# Altium footprint library Common-Parts-Library.PcbLib: 530 footprints (part 2 of 34)
Each footprint in its own frame and in the unit in brackets; x right, y up, seen from the top. Pads: shape width x height; smd on the part's side, far side on the other; paste and mask are expansions set on the pad; w line width, h text height; cw(c..) or ccw(c..) is an arc to the next point about the centre after c.
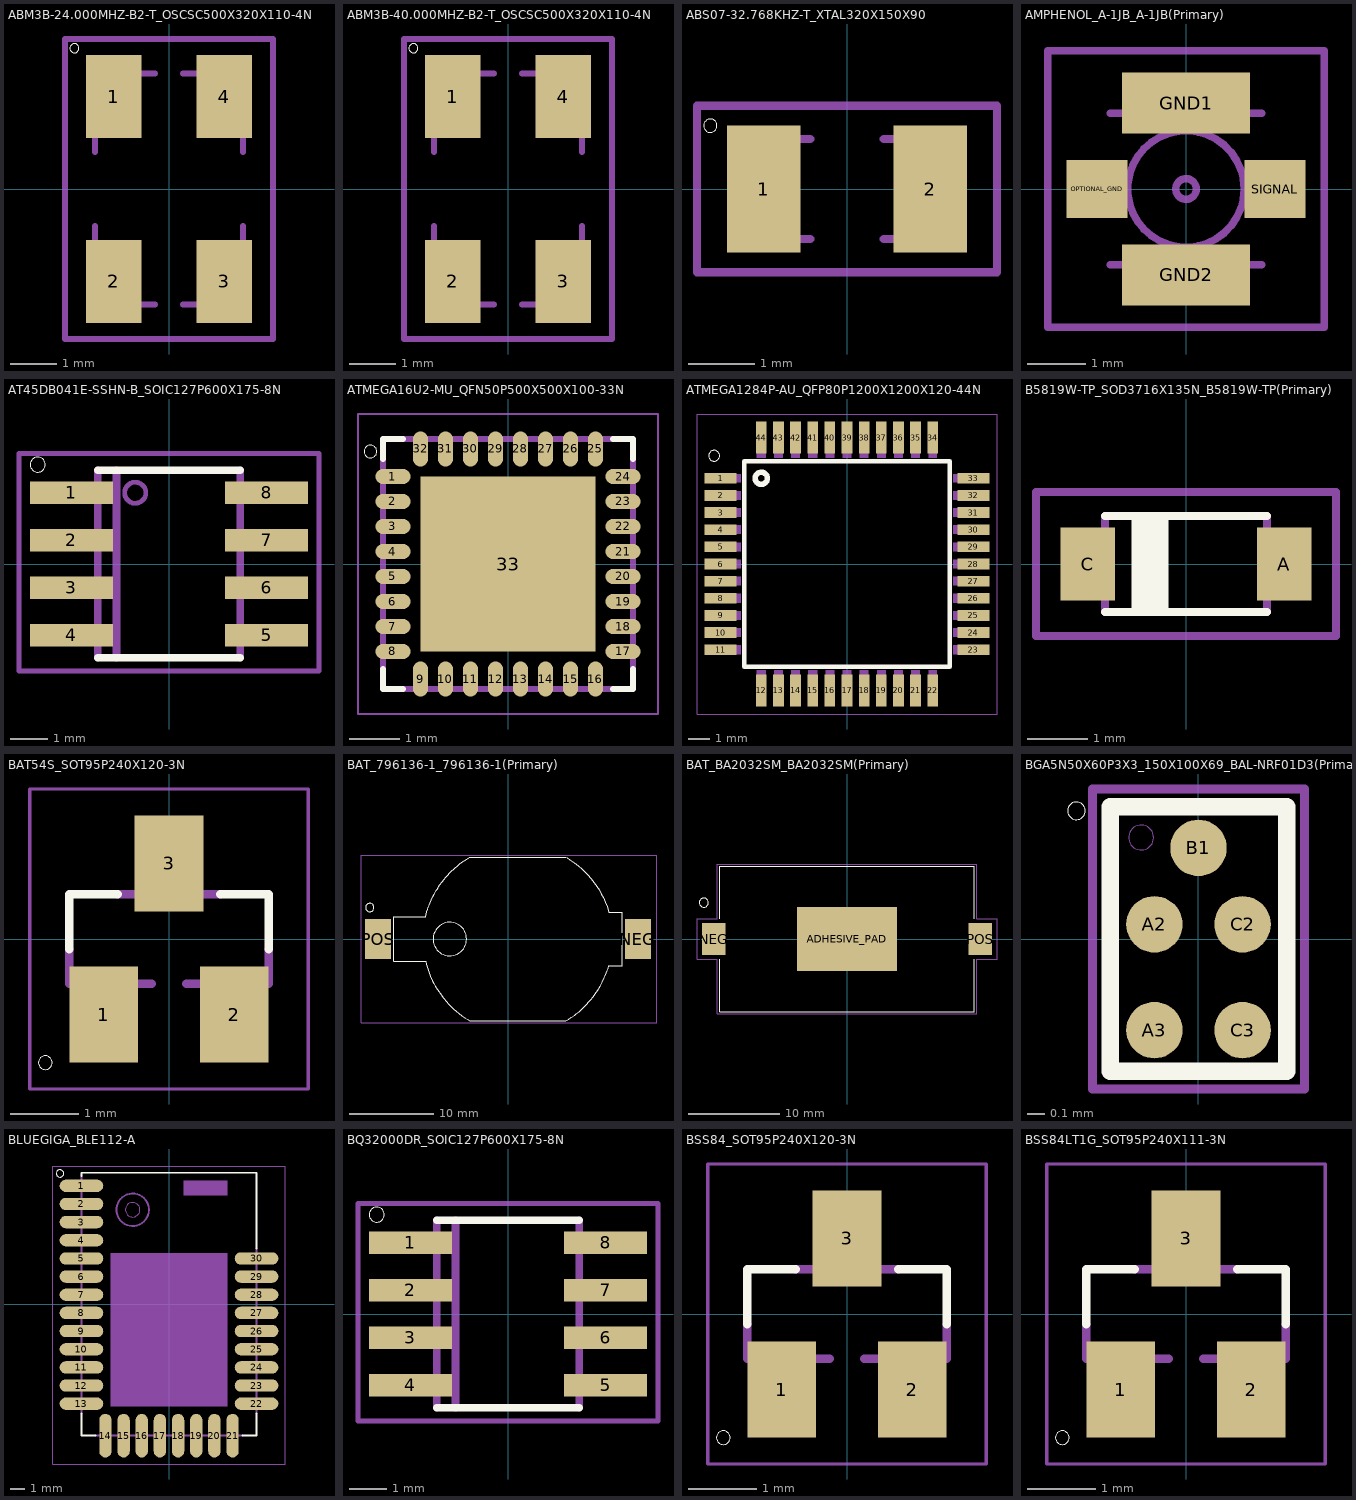
[diagram p1: the footprints below, top view; thin cyan lines are the x and y axes]

## ABM3B-24.000MHZ-B2-T_OSCSC500X320X110-4N [mm]
pads (4):
  rect 1.2x1.8 smd: 1(-1.2,2) 2(-1.2,-2) 3(1.2,-2) 4(1.2,2)
Top Overlay:
  circle w0: c-2.05,3.05 r0.1
Mechanical 1:
  lines w0.127: -1.6,-0.8 -1.6,-2.2 cw(c-1.6,-2.5) -1.3,-2.5 -0.3,-2.5 ; -1.6,0.8 -1.6,2.2 ccw(c-1.6,2.5) -1.3,2.5 -0.3,2.5 ; 0.3,-2.5 1.3,-2.5 cw(c1.6,-2.5) 1.6,-2.2 1.6,-0.8 ; 0.3,2.5 1.3,2.5 ccw(c1.6,2.5) 1.6,2.2 1.6,0.8 ; -2.25,-3.25 2.25,-3.25 2.25,3.25 -2.25,3.25 -2.25,-3.25

## ABM3B-40.000MHZ-B2-T_OSCSC500X320X110-4N [mm]
pads (4):
  rect 1.2x1.8 smd: 1(-1.2,2) 2(-1.2,-2) 3(1.2,-2) 4(1.2,2)
Top Overlay:
  circle w0: c-2.05,3.05 r0.1
Mechanical 1:
  lines w0.127: -1.6,-0.8 -1.6,-2.2 cw(c-1.6,-2.5) -1.3,-2.5 -0.3,-2.5 ; -1.6,0.8 -1.6,2.2 ccw(c-1.6,2.5) -1.3,2.5 -0.3,2.5 ; 0.3,-2.5 1.3,-2.5 cw(c1.6,-2.5) 1.6,-2.2 1.6,-0.8 ; 0.3,2.5 1.3,2.5 ccw(c1.6,2.5) 1.6,2.2 1.6,0.8 ; -2.25,-3.25 2.25,-3.25 2.25,3.25 -2.25,3.25 -2.25,-3.25

## ABS07-32.768KHZ-T_XTAL320X150X90 [mm]
pads (2):
  rect 1.1x1.9 smd: 1(-1.25,0) 2(1.25,0)
Top Overlay:
  circle w0: c-2.05,0.95 r0.1
Mechanical 1:
  lines w0.127: -0.55,-0.75 -1.6,-0.75 -1.6,0.75 -0.55,0.75 ; 0.55,-0.75 1.6,-0.75 1.6,0.75 0.55,0.75 ; -2.25,-1.25 2.25,-1.25 2.25,1.25 -2.25,1.25 -2.25,-1.25

## AMPHENOL_A-1JB_A-1JB(Primary) [mm]
pads (4):
  rect 2.2x1.05 smd: GND1(0,1.475) GND2(0,-1.475)
  rect 1.05x1 smd: OPTIONAL_GND(-1.525,0) SIGNAL(1.525,0)
Mechanical 1:
  circle w0.127: c0,0 r0.177
  circle w0.127: c0,0 r1
  lines w0.127: -1.3,-1.3 1.3,-1.3 ; -1.3,1.3 1.3,1.3 ; -2.375,-2.375 -2.375,2.375 2.375,2.375 2.375,-2.375 -2.375,-2.375

## AT45DB041E-SSHN-B_SOIC127P600X175-8N [mm]
pads (8):
  rect 2.2x0.6 smd: 1(-2.6,1.905) 2(-2.6,0.635) 3(-2.6,-0.635) 4(-2.6,-1.905) 5(2.6,-1.905) 6(2.6,-0.635) 7(2.6,0.635) 8(2.6,1.905)
Top Overlay:
  circle w0: c-3.5,2.65 r0.2
  lines w0.203: -1.9,-2.5 1.9,-2.5 ; -1.9,2.5 1.9,2.5
Mechanical 1:
  circle w0.127: c-0.9,1.9 r0.283
  region: 3.101,2.149 3.101,1.665 2.005,1.665 2.005,2.149
  region: 3.102,0.878 3.102,0.392 2.002,0.392 2.002,0.878
  region: 3.106,-0.396 3.106,-0.878 2.002,-0.878 2.002,-0.396
  region: 3.107,-1.667 3.107,-2.15 2,-2.15 2,-1.667
  region: -2,-1.66 -2,-2.154 -3.104,-2.154 -3.104,-1.66
  region: -2.001,-0.389 -2.001,-0.883 -3.103,-0.883 -3.103,-0.389
  region: -2.005,0.885 -2.005,0.385 -3.105,0.385 -3.105,0.885
  region: -2.003,2.153 -2.003,1.659 -3.101,1.659 -3.101,2.153
  lines w0.127: -4,-2.85 -4,2.95 4,2.95 4,-2.85 -4,-2.85
  lines w0.203: -1.9,-2.5 -1.9,2.5 ; -1.4,-2.5 -1.4,2.5 ; 1.9,-2.5 1.9,2.5

## ATMEGA16U2-MU_QFN50P500X500X100-33N [mm]
pads (33):
  oval 0.7x0.3 smd: 1(-2.3,1.75) 2(-2.3,1.25) 3(-2.3,0.75) 4(-2.3,0.25) 5(-2.3,-0.25) 6(-2.3,-0.75) 7(-2.3,-1.25) 8(-2.3,-1.75) 17(2.3,-1.75) 18(2.3,-1.25) 19(2.3,-0.75) 20(2.3,-0.25) 21(2.3,0.25) 22(2.3,0.75) 23(2.3,1.25) 24(2.3,1.75)
  oval 0.3x0.7 smd: 9(-1.75,-2.3) 10(-1.25,-2.3) 11(-0.75,-2.3) 12(-0.25,-2.3) 13(0.25,-2.3) 14(0.75,-2.3) 15(1.25,-2.3) 16(1.75,-2.3) 25(1.75,2.3) 26(1.25,2.3) 27(0.75,2.3) 28(0.25,2.3) 29(-0.25,2.3) 30(-0.75,2.3) 31(-1.25,2.3) 32(-1.75,2.3)
  rect 3.5x3.5 smd: 33(0,0)
Top Overlay:
  circle w0: c-2.75,2.25 r0.127
  lines w0.127: -2.5,-2.1 -2.5,-2.5 -2.1,-2.5 ; -2.5,2.1 -2.5,2.5 -2.1,2.5 ; 2.1,-2.5 2.5,-2.5 2.5,-2.1 ; 2.1,2.5 2.5,2.5 2.5,2.1
Top Paste:
  region: -1.102,1.1 1.1,1.1 1.1,-1.102 -1.102,-1.102
Top Solder:
  lines w0.254: -2.499,-1.749 -2.099,-1.749 ; -2.499,-1.249 -2.099,-1.249 ; -2.499,-0.749 -2.099,-0.749 ; -2.499,-0.249 -2.099,-0.249 ; -2.499,0.251 -2.099,0.251 ; -2.499,0.751 -2.099,0.751 ; -2.499,1.251 -2.099,1.251 ; -2.499,1.751 -2.099,1.751 ; -1.749,-2.499 -1.749,-2.099 ; -1.749,2.101 -1.749,2.501 ; -1.249,-2.499 -1.249,-2.099 ; -1.249,2.101 -1.249,2.501 ; -0.749,-2.499 -0.749,-2.099 ; -0.749,2.101 -0.749,2.501 ; -0.249,-2.499 -0.249,-2.099 ; -0.249,2.101 -0.249,2.501 ; 0.251,-2.499 0.251,-2.099 ; 0.251,2.101 0.251,2.501 ; 0.751,-2.499 0.751,-2.099 ; 0.751,2.101 0.751,2.501 ; 1.251,-2.499 1.251,-2.099 ; 1.251,2.101 1.251,2.501 ; 1.751,-2.499 1.751,-2.099 ; 1.751,2.101 1.751,2.501 ; 2.101,-1.749 2.501,-1.749 ; 2.101,-1.249 2.501,-1.249 ; 2.101,-0.749 2.501,-0.749 ; 2.101,-0.249 2.501,-0.249 ; 2.101,0.251 2.501,0.251 ; 2.101,0.751 2.501,0.751 ; 2.101,1.251 2.501,1.251 ; 2.101,1.751 2.501,1.751
Mechanical 1:
  lines w0.05: -3,-3 -3,3 3,3 3,-3 -3,-3
  lines w0.127: -2.499,-2.149 -2.499,2.151 ; -2.149,-2.499 2.151,-2.499 ; -2.149,2.501 2.151,2.501 ; 2.501,-2.149 2.501,2.151
  lines w0.23: -2.424,-1.749 -2.199,-1.749 ; -2.424,-1.249 -2.199,-1.249 ; -2.424,-0.749 -2.199,-0.749 ; -2.424,-0.249 -2.199,-0.249 ; -2.424,0.251 -2.199,0.251 ; -2.424,0.751 -2.199,0.751 ; -2.424,1.251 -2.199,1.251 ; -2.424,1.751 -2.199,1.751 ; -1.749,-2.424 -1.749,-2.199 ; -1.749,2.201 -1.749,2.426 ; -1.249,-2.424 -1.249,-2.199 ; -1.249,2.201 -1.249,2.426 ; -0.749,-2.424 -0.749,-2.199 ; -0.749,2.201 -0.749,2.426 ; -0.249,-2.424 -0.249,-2.199 ; -0.249,2.201 -0.249,2.426 ; 0.251,-2.424 0.251,-2.199 ; 0.251,2.201 0.251,2.426 ; 0.751,-2.424 0.751,-2.199 ; 0.751,2.201 0.751,2.426 ; 1.251,-2.424 1.251,-2.199 ; 1.251,2.201 1.251,2.426 ; 1.751,-2.424 1.751,-2.199 ; 1.751,2.201 1.751,2.426 ; 2.201,-1.749 2.426,-1.749 ; 2.201,-1.249 2.426,-1.249 ; 2.201,-0.749 2.426,-0.749 ; 2.201,-0.249 2.426,-0.249 ; 2.201,0.251 2.426,0.251 ; 2.201,0.751 2.426,0.751 ; 2.201,1.251 2.426,1.251 ; 2.201,1.751 2.426,1.751

## ATMEGA1284P-AU_QFP80P1200X1200X120-44N [mm]
pads (44):
  rect 1.5x0.5 smd: 1(-5.9,4) 2(-5.9,3.2) 3(-5.9,2.4) 4(-5.9,1.6) 5(-5.9,0.8) 6(-5.9,0) 7(-5.9,-0.8) 8(-5.9,-1.6) 9(-5.9,-2.4) 10(-5.9,-3.2) 11(-5.9,-4) 23(5.9,-4) 24(5.9,-3.2) 25(5.9,-2.4) 26(5.9,-1.6) 27(5.9,-0.8) 28(5.9,0) 29(5.9,0.8) 30(5.9,1.6) 31(5.9,2.4) 32(5.9,3.2) 33(5.9,4)
  rect 0.5x1.5 smd: 12(-4,-5.9) 13(-3.2,-5.9) 14(-2.4,-5.9) 15(-1.6,-5.9) 16(-0.8,-5.9) 17(0,-5.9) 18(0.8,-5.9) 19(1.6,-5.9) 20(2.4,-5.9) 21(3.2,-5.9) 22(4,-5.9) 34(4,5.9) 35(3.2,5.9) 36(2.4,5.9) 37(1.6,5.9) 38(0.8,5.9) 39(0,5.9) 40(-0.8,5.9) 41(-1.6,5.9) 42(-2.4,5.9) 43(-3.2,5.9) 44(-4,5.9)
Top Overlay:
  circle w0: c-6.2,5.05 r0.254
  circle w0.254: c-4,4 r0.283
  lines w0.203: -4.8,-4.8 -4.8,4.8 4.8,4.8 4.8,-4.8 -4.8,-4.8
Mechanical 1:
  drawing of 48 lines, arcs and shapes, not listed

## B5819W-TP_SOD3716X135N_B5819W-TP(Primary) [mil]
pads (2):
  rect 36x48 smd: A(64.5,0) C(-64.5,0)
Top Overlay:
  region: -35.55,31.5 -11.81,31.5 -11.81,-31.6 -35.55,-31.6
  lines w5: -53.15,-31.5 53.15,-31.5 ; -53.15,31.5 53.15,31.5
Mechanical 1:
  lines w5: -53.15,-31.5 -53.15,31.5 ; 53.15,-31.5 53.15,31.5 ; -98.43,-47.24 98.43,-47.24 98.43,47.24 -98.43,47.24 -98.43,-47.24

## BAT54S_SOT95P240X120-3N [mm]
pads (3):
  rect 1x1.4 smd: 1(-0.95,-1.1) 2(0.95,-1.1) 3(0,1.1)
Top Overlay:
  circle w0: c-1.8,-1.8 r0.1
  lines w0.127: -1.45,-0.15 -1.45,0.65 -0.75,0.65 ; 0.75,0.65 1.45,0.65 1.45,-0.15
Mechanical 1:
  region: -1.171,-0.711 -0.711,-0.711 -0.711,-1.298 -1.171,-1.298
  region: 0.713,-0.711 1.168,-0.711 1.168,-1.299 0.713,-1.299
  region: -0.229,1.295 0.229,1.295 0.229,0.714 -0.229,0.714
  lines w0.051: -2.023,-2.183 -2.023,2.183 2.023,2.183 2.023,-2.183 -2.023,-2.183
  lines w0.127: -1.45,-0.15 -1.45,-0.65 -0.25,-0.65 ; -0.75,0.65 0.75,0.65 ; 0.25,-0.65 1.45,-0.65 1.45,-0.15

## BAT_796136-1_796136-1(Primary) [mm]
pads (2):
  rect 3.15x4.78 smd: NEG(15.52,0) POS(-15.52,0)
Top Overlay:
  circle w0: c-16.5,3.75 r0.5
  circle w0.127: c-6.941,-0.004 r2
  lines w0.127: -4.551,9.775 6.901,9.775 6.901,9.776 7.05,9.69 7.37,9.488 7.555,9.366 7.913,9.111 8.378,8.746 8.778,8.401 9.13,8.068 9.51,7.677 9.875,7.264 10.298,6.723 10.61,6.276 10.872,5.866 11.156,5.372 11.367,4.959 11.623,4.408 11.834,3.86 12.058,3.176 13.67,3.176 ; -4.552,9.776 -4.924,9.547 -5.218,9.353 -5.509,9.147 -5.751,8.964 -5.893,8.852 -6.087,8.696 -6.312,8.501 -6.496,8.335 -6.715,8.128 -6.998,7.843 -7.145,7.687 -7.297,7.52 -7.463,7.329 -7.566,7.204 -7.651,7.101 -7.801,6.911 -7.877,6.811 -7.953,6.709 -8.053,6.572 -8.14,6.448 -8.257,6.276 -8.343,6.146 -8.455,5.969 -8.552,5.809 -8.697,5.56 -8.825,5.328 -8.983,5.019 -9.173,4.615 -9.293,4.339 -9.423,4.009 -9.506,3.782 -9.58,3.567 -9.683,3.244 -9.838,2.668 -9.838,2.666 -13.65,2.666 -13.65,-2.666 -9.837,-2.666 -9.753,-3 -9.585,-3.563 -9.401,-4.076 -9.255,-4.432 -9.015,-4.957 -8.862,-5.259 -8.665,-5.618 -8.546,-5.823 -8.286,-6.237 -8.105,-6.501 -7.861,-6.837 -7.724,-7.013 -7.607,-7.16 -7.45,-7.348 -7.314,-7.503 -7.105,-7.735 -6.84,-8.011 -6.532,-8.308 -6.195,-8.607 -5.867,-8.878 -5.52,-9.142 -5.142,-9.409 -4.761,-9.654 -4.56,-9.773 6.917,-9.773 7.26,-9.561 7.581,-9.351 7.953,-9.084 8.173,-8.915 8.478,-8.664 8.934,-8.264 9.391,-7.807 9.665,-7.505 9.879,-7.259 10.185,-6.877 10.44,-6.53 10.716,-6.118 11.012,-5.635 11.263,-5.173 11.517,-4.641 11.623,-4.395 11.739,-4.112 11.849,-3.815 11.942,-3.544 12.056,-3.174 ; 12.056,-3.175 13.67,-3.175 13.67,3.176 ; 13.67,3.173 13.67,3.176
Mechanical 1:
  lines w0.127: -17.5,-10 -17.5,10 17.75,10 17.75,-10 -17.5,-10

## BAT_BA2032SM_BA2032SM(Primary) [mm]
pads (3):
  rect 11x7 smd: ADHESIVE_PAD(0,0)
  rect 2.6x3.56 smd: NEG(-14.65,0) POS(14.65,0)
Top Overlay:
  circle w0: c-15.75,4 r0.5
  lines w0.127: -14,-2.25 -14,-8 14,-8 14,-2.25 ; -14,2.25 -14,8 14,8 14,2.25
Mechanical 1:
  lines w0.127: -16.5,-2.25 -14.25,-2.25 -14.25,-8.25 14.25,-8.25 14.25,-2.25 16.5,-2.25 16.5,2.25 14.25,2.25 14.25,8.25 -14.25,8.25 -14.25,2.25 -16.5,2.25 -16.5,-2.25

## BGA5N50X60P3X3_150X100X69_BAL-NRF01D3(Primary) [mm]
pads (5):
  round 0.32 smd: A2(-0.25,0.083) A3(-0.25,-0.516) B1(0,0.516) C2(0.25,0.083) C3(0.25,-0.516)
Top Overlay:
  circle w0: c-0.691,0.726 r0.05
  lines w0.1: -0.5,-0.75 0.5,-0.75 0.5,0.75 -0.5,0.75 -0.5,-0.75
Top Paste:
  circle w0: c0.25,-0.516 r0.11
  circle w0: c-0.25,-0.516 r0.11
  circle w0: c0.25,0.083 r0.11
  circle w0: c-0.25,0.083 r0.11
  circle w0: c0,0.516 r0.11
Top Solder:
  circle w0: c0.25,-0.516 r0.11
  circle w0: c-0.25,-0.516 r0.11
  circle w0: c0.25,0.083 r0.11
  circle w0: c-0.25,0.083 r0.11
  circle w0: c0,0.516 r0.11
Mechanical 1:
  circle w0: c-0.325,0.575 r0.071
  lines w0.05: -0.6,-0.85 -0.6,0.85 0.6,0.85 0.6,-0.85 -0.6,-0.85

## BLUEGIGA_BLE112-A [mm]
pads (30):
  oval 3x0.85 smd: 1(-6.025,8.15) 2(-6.025,6.9) 3(-6.025,5.65) 4(-6.025,4.4) 5(-6.025,3.15) 6(-6.025,1.9) 7(-6.025,0.65) 8(-6.025,-0.6) 9(-6.025,-1.85) 10(-6.025,-3.1) 11(-6.025,-4.35) 12(-6.025,-5.6) 13(-6.025,-6.85) 22(6.025,-6.85) 23(6.025,-5.6) 24(6.025,-4.35) 25(6.025,-3.1) 26(6.025,-1.85) 27(6.025,-0.6) 28(6.025,0.65) 29(6.025,1.9) 30(6.025,3.15)
  oval 0.85x3 smd: 14(-4.375,-9.05) 15(-3.125,-9.05) 16(-1.875,-9.05) 17(-0.625,-9.05) 18(0.625,-9.05) 19(1.875,-9.05) 20(3.125,-9.05) 21(4.375,-9.05)
Top Overlay:
  circle w0: c-7.5,9 r0.254
  lines w0.127: -6.025,-7.525 -6.025,-9.05 -5.05,-9.05 ; -6.025,8.825 -6.025,9.05 6.025,9.05 6.025,3.825 ; 5.05,-9.05 6.025,-9.05 6.025,-7.525
Mechanical 1:
  circle w0: c-2.5,6.5 r0.5
  circle w0.127: c-2.5,6.5 r1.118
  region: 1.001,8.5 4,8.5 4,7.508 1.001,7.508
  region: -4.01,3.5 4,3.5 4,-7.018 -4.01,-7.018
  lines w0.05: -8,-11 8,-11 8,9.5 -8,9.5 -8,-11
  lines w0.127: -6.025,-7.525 -6.025,8.825 ; -5.05,-9.05 5.05,-9.05 ; 6.025,-7.525 6.025,3.825

## BQ32000DR_SOIC127P600X175-8N [mm]
pads (8):
  rect 2.2x0.6 smd: 1(-2.6,1.905) 2(-2.6,0.635) 3(-2.6,-0.635) 4(-2.6,-1.905) 5(2.6,-1.905) 6(2.6,-0.635) 7(2.6,0.635) 8(2.6,1.905)
Top Overlay:
  circle w0: c-3.5,2.65 r0.2
  lines w0.203: -1.9,-2.5 1.9,-2.5 ; -1.9,2.5 1.9,2.5
Mechanical 1:
  region: 3.102,2.148 3.102,1.666 2.006,1.666 2.006,2.148
  region: 3.102,0.878 3.102,0.392 2.003,0.392 2.003,0.878
  region: 3.104,-0.394 3.104,-0.879 2.001,-0.879 2.001,-0.394
  region: 3.105,-1.665 3.105,-2.15 2,-2.15 2,-1.665
  region: -2,-1.66 -2,-2.153 -3.103,-2.153 -3.103,-1.66
  region: -2.001,-0.389 -2.001,-0.882 -3.102,-0.882 -3.102,-0.389
  region: -2.005,0.885 -2.005,0.385 -3.105,0.385 -3.105,0.885
  region: -2.002,2.152 -2.002,1.659 -3.101,1.659 -3.101,2.152
  lines w0.127: -4,-2.85 -4,2.95 4,2.95 4,-2.85 -4,-2.85
  lines w0.203: -1.9,-2.5 -1.9,2.5 ; -1.4,-2.5 -1.4,2.5 ; 1.9,-2.5 1.9,2.5

## BSS84_SOT95P240X120-3N [mm]
pads (3):
  rect 1x1.4 smd: 1(-0.95,-1.1) 2(0.95,-1.1) 3(0,1.1)
Top Overlay:
  circle w0: c-1.8,-1.8 r0.1
  lines w0.127: -1.45,-0.15 -1.45,0.65 -0.75,0.65 ; 0.75,0.65 1.45,0.65 1.45,-0.15
Mechanical 1:
  region: -1.172,-0.711 -0.711,-0.711 -0.711,-1.299 -1.172,-1.299
  region: 0.713,-0.711 1.168,-0.711 1.168,-1.299 0.713,-1.299
  region: -0.229,1.295 0.229,1.295 0.229,0.713 -0.229,0.713
  lines w0.051: -2.023,-2.183 -2.023,2.183 2.023,2.183 2.023,-2.183 -2.023,-2.183
  lines w0.127: -1.45,-0.15 -1.45,-0.65 -0.25,-0.65 ; -0.75,0.65 0.75,0.65 ; 0.25,-0.65 1.45,-0.65 1.45,-0.15

## BSS84LT1G_SOT95P240X111-3N [mm]
pads (3):
  rect 1x1.4 smd: 1(-0.95,-1.1) 2(0.95,-1.1) 3(0,1.1)
Top Overlay:
  circle w0: c-1.8,-1.8 r0.1
  lines w0.127: -1.45,-0.15 -1.45,0.65 -0.75,0.65 ; 0.75,0.65 1.45,0.65 1.45,-0.15
Mechanical 1:
  region: -1.172,-0.711 -0.711,-0.711 -0.711,-1.3 -1.172,-1.3
  region: 0.713,-0.711 1.168,-0.711 1.168,-1.299 0.713,-1.299
  region: -0.229,1.295 0.229,1.295 0.229,0.713 -0.229,0.713
  lines w0.051: -2.023,-2.183 -2.023,2.183 2.023,2.183 2.023,-2.183 -2.023,-2.183
  lines w0.127: -1.45,-0.15 -1.45,-0.65 -0.25,-0.65 ; -0.75,0.65 0.75,0.65 ; 0.25,-0.65 1.45,-0.65 1.45,-0.15